# Altium schematic symbol library TestPad.SchLib: 1 symbol
Pins are listed as number, name and electrical type; pins without a type are passive.

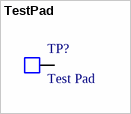
[diagram p0: symbol TestPad]

## TestPad
designator TP?, comment Test Pad
footprint PIN1 (Footprint not found)
pins: 1